# Altium schematic symbol library Nichicon-UCL-Series.SchLib: 1 symbol
Pins are listed as number, name and electrical type; pins without a type are passive.

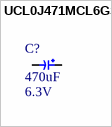
[diagram p0: symbol UCL0J471MCL6GS]

## UCL0J471MCL6GS
designator C?  value 470uF  Value2: 6.3V  (hidden comment: UCL0J471MCL6GS)
470 µF 6.3 V Aluminum Electrolytic Capacitors Radial, Can - SMD - 2000 Hrs @ 105°C; Type: UCL0J471MCL6GS
footprint UCL_10X7.7L_C
pins: N, P